# EAGLE library part HEADER-2X6P (library Deegou_Connector)
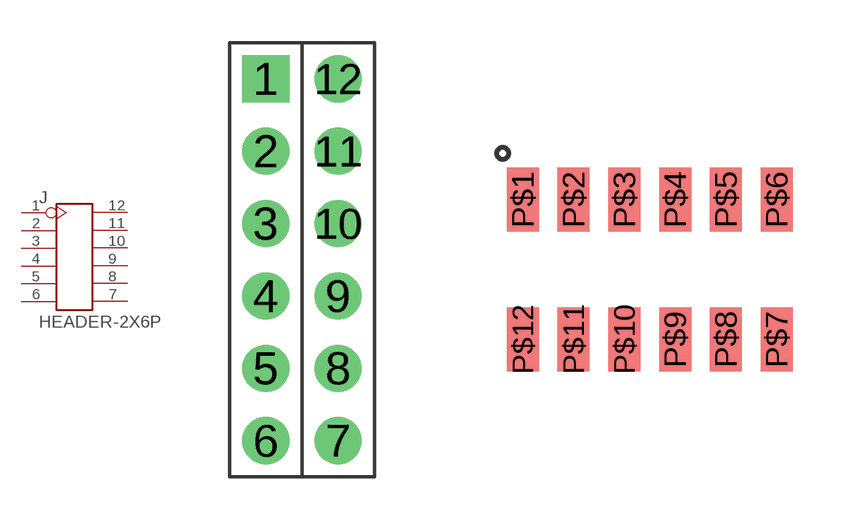
[diagram p12: symbol with the pads of 2X6P-2.54; footprints 2X6P-2.54, 2X6P-SMD-1.27]

Designator prefix J

## HEADER-2X6P-2.54  [2X6P-2.54]
1  1
2  2
3  3
4  4
5  5
6  6
7  7
8  8
9  9
10  10
11  11
12  12

## HEADER-2X6P-2*0.64  [2X6P-SMD-1.27]
P$1  1
P$2  2
P$3  3
P$4  4
P$5  5
P$6  6
P$7  7
P$8  8
P$9  9
P$10  10
P$11  11
P$12  12

## HEADER-2X6P-1.27  [2X6P-1.27-THT]
Pads as for 2X6P-SMD-1.27

## HEADER-2X6P-5.08  [2X6P-5.08]
Pads as for 2X6P-2.54

## Footprint 2X6P-2.54 (pad centres in mm)
drill 0.889 pad 1.651 square: 1 -1.27,6.35
drill 0.889 pad 1.651: 2 -1.27,3.81; 3 -1.27,1.27; 4 -1.27,-1.27; 5 -1.27,-3.81; 6 -1.27,-6.35; 7 1.27,-6.35; 8 1.27,-3.81; 9 1.27,-1.27; 10 1.27,1.27; 11 1.27,3.81; 12 1.27,6.35

## Footprint 2X6P-SMD-1.27 (pad centres in mm)
smd 0.8 x 1.6: P$1 -3.175,1.75; P$2 -1.905,1.75; P$3 -0.635,1.75; P$4 0.635,1.75; P$5 1.905,1.75; P$6 3.175,1.75; P$7 3.175,-1.75; P$8 1.905,-1.75; P$9 0.635,-1.75; P$10 -0.635,-1.75; P$11 -1.905,-1.75; P$12 -3.175,-1.75

## Footprint 2X6P-1.27-THT (pad centres in mm)
drill 0.559: P$1 -3.175,-0.635; P$2 -1.905,-0.635; P$3 -0.635,-0.635; P$4 0.635,-0.635; P$5 1.905,-0.635; P$6 3.175,-0.635; P$7 3.175,0.635; P$8 1.905,0.635; P$9 0.635,0.635; P$10 -0.635,0.635; P$11 -1.905,0.635
drill 0.55: P$12 -3.175,0.635

## Footprint 2X6P-5.08 (pad centres in mm)
drill 1.4 pad 2.54: 1 -13.97,5.08; 2 -8.89,5.08; 3 -3.81,5.08; 4 1.27,5.08; 5 6.35,5.08; 6 11.43,5.08; 7 13.97,-5.08; 8 8.89,-5.08; 9 3.81,-5.08; 10 -1.27,-5.08; 11 -6.35,-5.08; 12 -11.43,-5.08